# Altium footprint library CYA0630-1.5UH.PcbLib: 1 footprints
Each footprint in its own frame and in the unit in brackets; x right, y up, seen from the top. Pads: shape width x height; smd on the part's side, far side on the other; paste and mask are expansions set on the pad; w line width, h text height; cw(c..) or ccw(c..) is an arc to the next point about the centre after c.
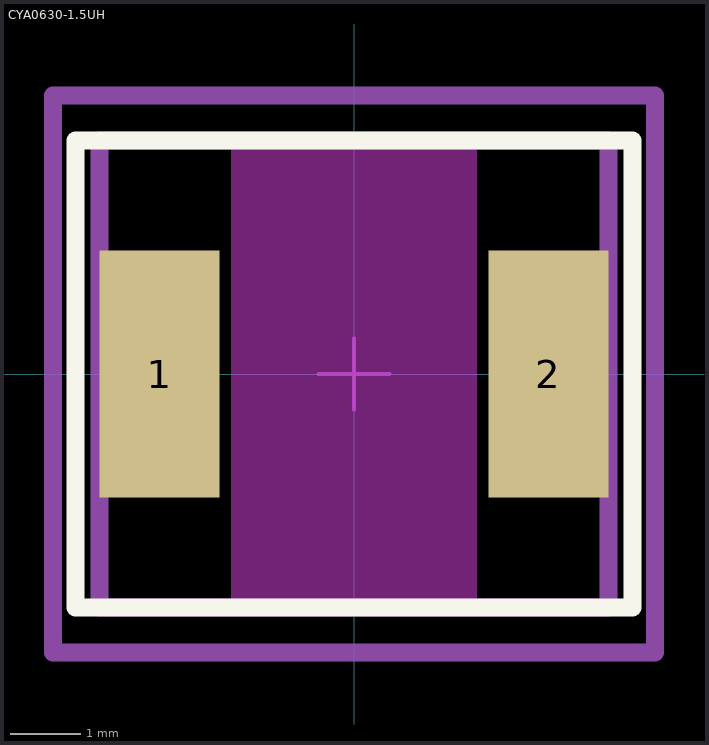
[diagram p0: the footprint, top view; thin cyan lines are the x and y axes]

## CYA0630-1.5UH [mm] "1.5uH 10.6mΩ 14A 9A ±20% SMD,7.2x6.6mm Inductors (SMD) ROHS"
pads (2):
  rect 1.7x3.5 smd: 1(-2.75,0) 2(2.75,0)
Top Layer keep-out:
  region: -1.734,3.302 1.734,3.302 1.734,1.905 1.734,-1.905 1.734,-3.302 -1.734,-3.302 -1.734,-1.905 -1.734,1.905
Top Overlay:
  lines w0.254: -3.937,-3.302 3.937,-3.302 3.937,3.302 -3.937,3.302 -3.937,-3.302
Top Assembly:
  lines w0.254: -3.6,-3.3 3.6,-3.3 3.6,3.3 -3.6,3.3 -3.6,-3.3
  text ".Designator" at 0,0.286 h1.52
Top Courtyard (Mech15):
  lines w0.254: -4.255,-3.937 4.255,-3.937 4.255,3.937 -4.255,3.937 -4.255,-3.937
Top Component Center:
  lines w0.051: -0.508,0 0.508,0 ; 0,-0.508 0,0.508
3D body "CYA0630-1.5UH.STEP": height 3, standoff 0, extent -3.6,-3.3 3.6,3.3